# EAGLE library part CORTEX_JTAG (library carrilib)
.05" Cortex M Connector in JTAG mode Manufacturer: Generic Part Number: Cortex M Jtag Notes: I use Harwin M50-3600542 connectors
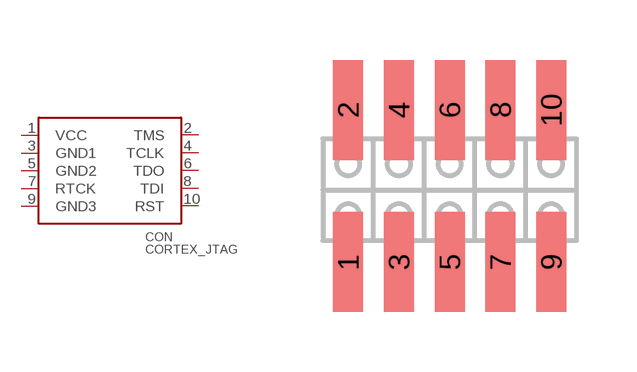
[diagram p2: symbol with the pads of M50-3600542; footprint M50-3600542]

Designator prefix CON

## CORTEX_JTAG  [M50-3600542]
1  VCC
2  TMS
3  GND1
4  TCLK
5  GND2
6  TDO
7  RTCK
8  TDI
9  GND3
10  RST

## Footprint M50-3600542 (pad centres in mm)
.05" x 5, 2 Row
smd 0.75 x 2.5: 1 -2.54,-1.81; 2 -2.54,2; 3 -1.27,-1.81; 4 -1.27,2; 5 0,-1.81; 6 0,2; 7 1.27,-1.81; 8 1.27,2; 9 2.54,-1.81; 10 2.54,2